# Altium integrated library LD1117AS33.IntLib: 1 symbol
Pins are listed as number, name and electrical type; pins without a type are passive.

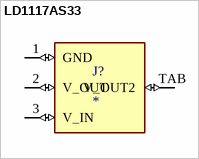
[diagram p0: symbol LD1117AS33]

## LD1117AS33
designator J?
Linear Voltage Regulator IC Positive Fixed 1 Output 1A SOT-223; MF: STMicroelectronics; MP: LD1117AS33; SnapEDA_Link: https://www.snapeda.com/parts/LD1117AS33/STMicroelectronics/view-part/?ref=snap; Package: SOT-223 STMicroelectronics; Value: *; Check_prices: https://www.snapeda.com/parts/LD1117AS33/STMicroelectronics/view-part/?ref=eda
footprint SOT223
pins: 1 GND (io), 2 V_OUT (io), 3 V_IN (io), TAB V_OUT2 (io)